# EAGLE library part GFSH89F4B (library con-positronic)
FEMALE CONNECTOR Goldfish Series
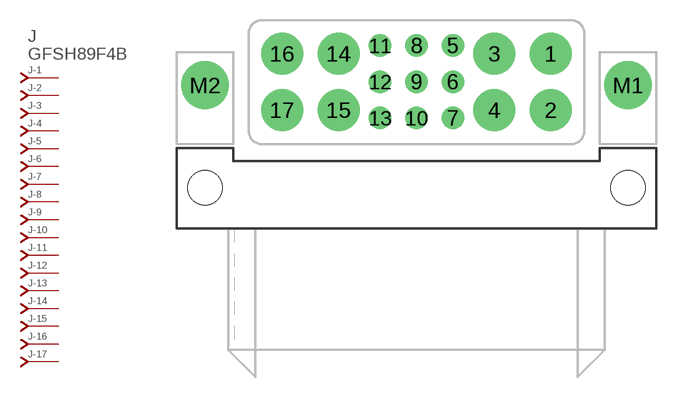
[diagram p0: symbol with the pads of GFSH89X4B; footprint GFSH89X4B]

Designator prefix J; gates -1=J-NV -2=J-N -3=J-N -4=J-N -5=J-N -6=J-N -7=J-N -8=J-N -9=J-N -10=J-N -11=J-N -12=J-N -13=J-N -14=J-N -15=J-N -16=J-N -17=J-N

## GFSH89F4B  [GFSH89X4B]
1  -1:P$1  pas
2  -2:P$1  pas
3  -3:P$1  pas
4  -4:P$1  pas
5  -5:P$1  pas
6  -6:P$1  pas
7  -7:P$1  pas
8  -8:P$1  pas
9  -9:P$1  pas
10  -10:P$1  pas
11  -11:P$1  pas
12  -12:P$1  pas
13  -13:P$1  pas
14  -14:P$1  pas
15  -15:P$1  pas
16  -16:P$1  pas
17  -17:P$1  pas

## Footprint GFSH89X4B (pad centres in mm)
GFSH89X4B Goldfish Series Right Angle PCB Mount
drill 2.108: 1 10,10; 2 10,5.8; 3 5.8,10; 4 5.8,5.8; 14 -5.8,10; 15 -5.8,5.8; 16 -10,10; 17 -10,5.8
drill 1.118: 5 2.7,10.6; 6 2.7,7.9; 7 2.7,5.2; 8 0,10.6; 9 0,7.9; 10 0,5.2; 11 -2.7,10.6; 12 -2.7,7.9; 13 -2.7,5.2
drill 2.54 pad 0.254: M1 15.748,7.645; M2 -15.748,7.645
hole 2.54 at 15.748,0
hole 2.54 at -15.748,0